# Altium footprint library LED.PcbLib: 36 footprints (part 1 of 3)
Each footprint in its own frame and in the unit in brackets; x right, y up, seen from the top. Pads: shape width x height; smd on the part's side, far side on the other; paste and mask are expansions set on the pad; w line width, h text height; cw(c..) or ccw(c..) is an arc to the next point about the centre after c.
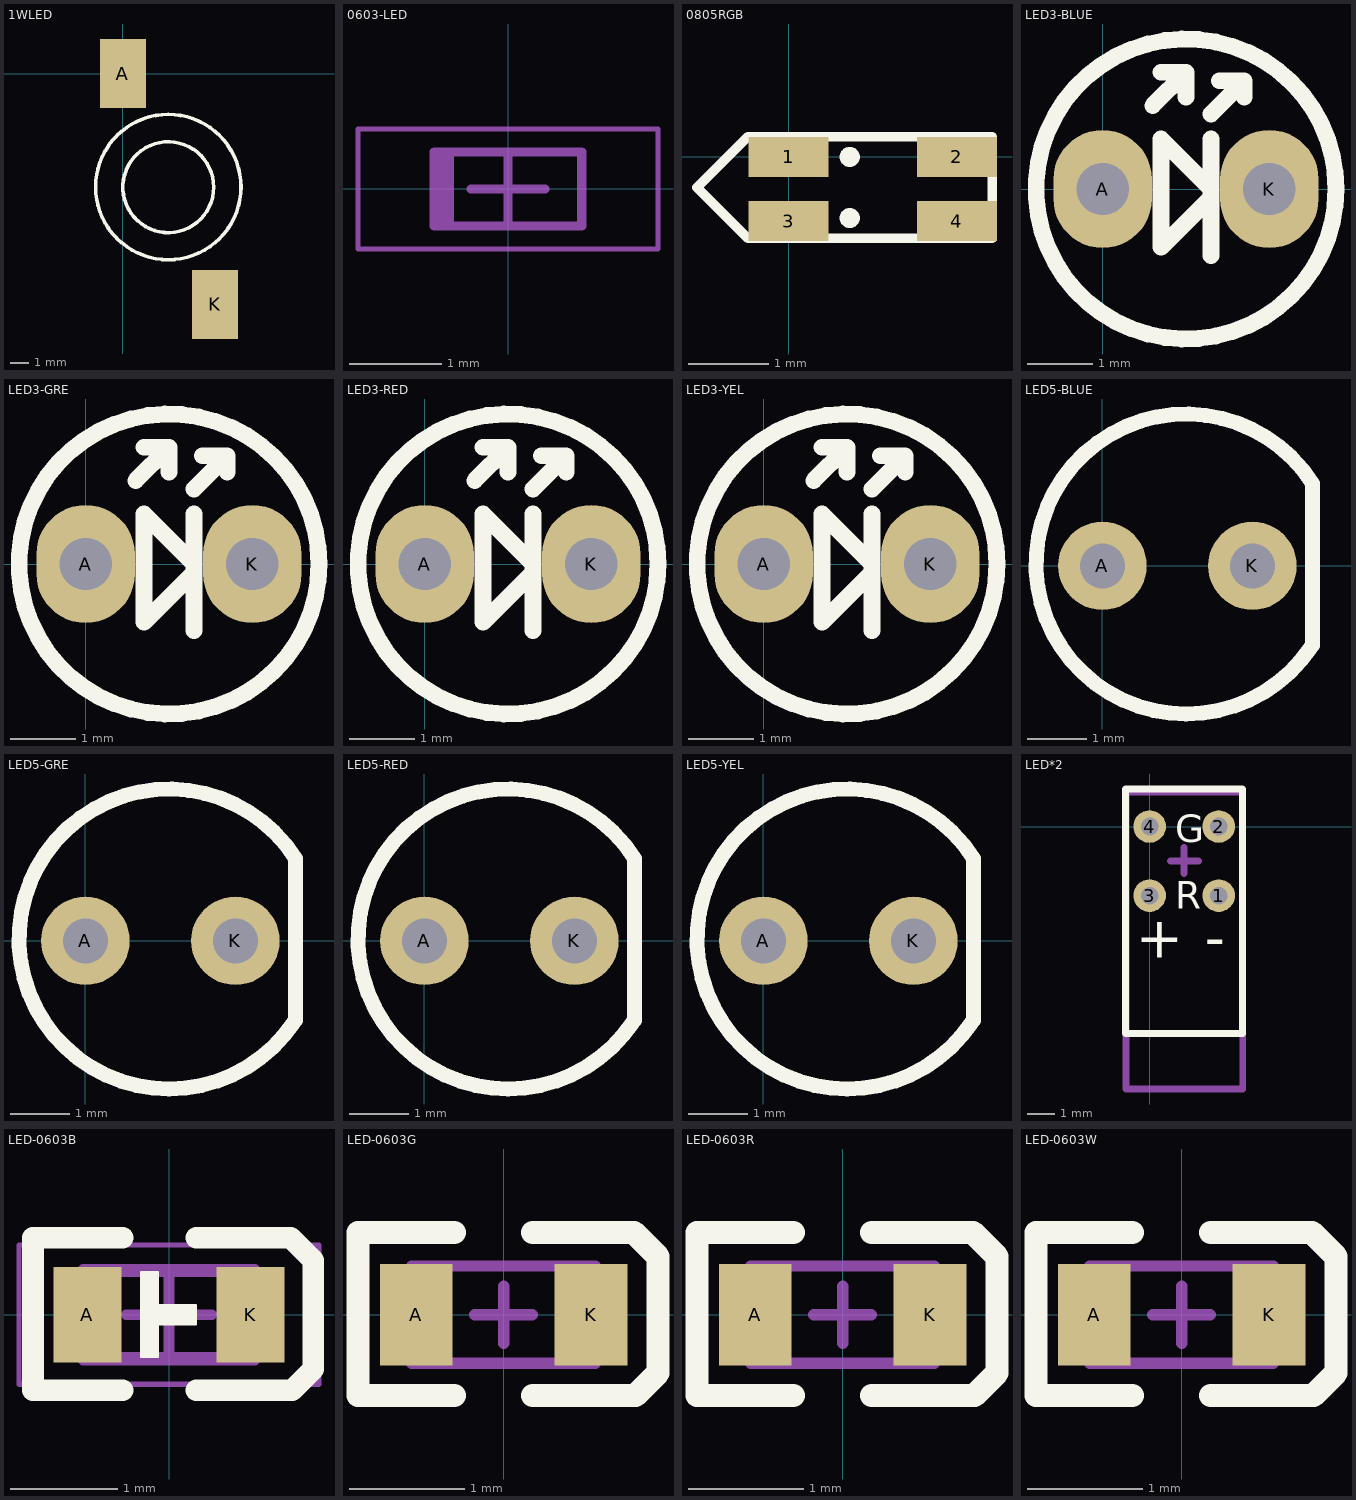
[diagram p0: the footprints below, top view; thin cyan lines are the x and y axes]

## 1WLED [mm]
pads (2):
  rect 2.54x3.81 smd: A(0,0) K(5.08,-12.7)
Top Overlay:
  circle w0.2: c2.5,-6.25 r2.5
  circle w0.2: c2.5,-6.242 r4
3D body: height 0.89, standoff 0.25, extent -1,-5.25 1,-1.5
3D body: height 0.89, standoff 0.25, extent 4,-11 6,-8
3D body: height 3.25, standoff 0.25, extent -1.468,-10.234 6.5,-2.25
3D body: height 5.55, standoff 0.55, extent 0.026,-8.729 5,-3.75
3D body: height 0.5, standoff 0.25, extent 4,-14.25 6,-11
3D body: height 0.5, standoff 0.25, extent -1,-1.5 1,1.5

## 0603-LED [mm] "Molded Diode, 2-Leads, Body 1.60x0.80mm, IPC Medium Density"
height 0.4
Top Courtyard:
  lines w0.05: -1.625,-0.65 -1.625,0.65 1.625,0.65 1.625,-0.65 -1.625,-0.65
  lines w0.1: -0.4,0 0.4,0 ; 0,-0.4 0,0.4
Top Assembly (Mech20):
  rectangle: -0.8,-0.4 -0.585,0.4
  lines w0.1: -0.8,-0.4 -0.8,0.4 0.8,0.4 0.8,-0.4 -0.8,-0.4

## 0805RGB [mm]
height 10
pads (4):
  rect 1x0.5 smd: 1(0,0) 2(2.1,0) 3(0,-0.8) 4(2.1,-0.8)
Top Overlay:
  circle w0.254: c0.762,0 r0
  circle w0.254: c0.762,-0.762 r0
  lines w0.12: -1.143,-0.381 -0.508,0.254 0,0.254 2.032,0.254 2.54,0.254 2.54,-1.016 2.032,-1.016 0,-1.016 -0.508,-1.016 -1.143,-0.381

## LED3-BLUE [mm]
pads (2):
  oval 1.5x1.8 hole 0.8: A(0,0) K(2.54,0)
Top Overlay:
  circle w0.254: c1.27,0 r2.286
  lines w0.254: 0.762,1.27 1.27,1.778 ; 0.889,1.778 1.27,1.778 ; 1.27,1.397 1.27,1.778 ; 1.651,-1.016 1.651,0.762 ; 1.651,1.143 2.159,1.651 ; 1.778,1.651 2.159,1.651 ; 2.159,1.397 2.159,1.651 ; 0.889,-0.889 1.651,-0.127 1.651,0 0.889,0.762 0.889,-0.889
3D body "LED3_BLUE.STEP": height 5.2, standoff -2, extent -0.73,-1.998 2.79,1.998

## LED3-GRE [mm]
pads (2):
  oval 1.5x1.8 hole 0.8: A(0,0) K(2.54,0)
Top Overlay:
  circle w0.254: c1.27,0 r2.286
  lines w0.254: 0.762,1.27 1.27,1.778 ; 0.889,1.778 1.27,1.778 ; 1.27,1.397 1.27,1.778 ; 1.651,-1.016 1.651,0.762 ; 1.651,1.143 2.159,1.651 ; 1.778,1.651 2.159,1.651 ; 2.159,1.397 2.159,1.651 ; 0.889,-0.889 1.651,-0.127 1.651,0 0.889,0.762 0.889,-0.889
3D body "LED3_GRE.STEP": height 5.2, standoff -2, extent -0.74,-2.003 2.78,1.993

## LED3-RED [mm]
pads (2):
  oval 1.5x1.8 hole 0.8: A(0,0) K(2.54,0)
Top Overlay:
  circle w0.254: c1.27,0 r2.286
  lines w0.254: 0.762,1.27 1.27,1.778 ; 0.889,1.778 1.27,1.778 ; 1.27,1.397 1.27,1.778 ; 1.651,-1.016 1.651,0.762 ; 1.651,1.143 2.159,1.651 ; 1.778,1.651 2.159,1.651 ; 2.159,1.397 2.159,1.651 ; 0.889,-0.889 0.889,0.762 1.651,0 1.651,-0.127 0.889,-0.889
3D body "LED3_RED.STEP": height 5.2, standoff -2, extent -0.74,-2.003 2.78,1.993

## LED3-YEL [mm]
pads (2):
  oval 1.5x1.8 hole 0.8: A(0,0) K(2.54,0)
Top Overlay:
  circle w0.254: c1.27,0 r2.286
  lines w0.254: 0.762,1.27 1.27,1.778 ; 0.889,1.778 1.27,1.778 ; 1.27,1.397 1.27,1.778 ; 1.651,-1.016 1.651,0.762 ; 1.651,1.143 2.159,1.651 ; 1.778,1.651 2.159,1.651 ; 2.159,1.397 2.159,1.651 ; 0.889,-0.889 1.651,-0.127 1.651,0 0.889,0.762 0.889,-0.889
3D body "LED3_YEL.STEP": height 5.2, standoff -2, extent -0.373,-1.91 3.147,2.086

## LED5-BLUE [mm]
pads (2):
  round 1.5 hole 0.762: A(0,0) K(2.54,0)
Top Overlay:
  lines w0.254: 3.528,-1.378 cw(c1.415,0.031) 3.556,1.397 3.556,-1.35
3D body "LED5_BLUE.STEP": height 8.6, standoff -2, extent -1.58,-2.85 3.77,2.85

## LED5-GRE [mm]
pads (2):
  round 1.5 hole 0.762: A(0,0) K(2.54,0)
Top Overlay:
  lines w0.254: 3.528,-1.378 cw(c1.415,0.031) 3.556,1.397 3.556,-1.35
3D body "LED5_GRE.STEP": height 8.6, standoff -2, extent -1.58,-2.85 3.77,2.85

## LED5-RED [mm]
pads (2):
  round 1.5 hole 0.762: A(0,0) K(2.54,0)
Top Overlay:
  lines w0.254: 3.528,-1.378 cw(c1.415,0.031) 3.556,1.397 3.556,-1.35
3D body "LED5_RED.STEP": height 8.6, standoff -2, extent -1.58,-2.85 3.77,2.85

## LED5-YEL [mm]
pads (2):
  round 1.5 hole 0.762: A(0,0) K(2.54,0)
Top Overlay:
  lines w0.254: 3.528,-1.378 cw(c1.415,0.031) 3.556,1.397 3.556,-1.35
3D body "LED5_YEL.STEP": height 8.6, standoff -2, extent -1.58,-2.85 3.77,2.85

## LED*2 [mm] "左正右负"
pads (4):
  round 1.2 hole 0.65: 1(2.54,-2.54) 2(2.54,0) 3(0,-2.54) 4(0,0)
Top Overlay:
  lines w0.254: 3.411,-7.611 -0.88,-7.611 -0.88,1.38 3.42,1.38 3.42,-7.62
  text "+" at -0.508,-4.826 h1.52
  text "-" at 2.032,-4.826 h1.52
  text "R" at 0.95,-3.025 h1
  text "G" at 0.95,-0.575 h1
Top Component Outline:
  lines w0.254: -0.875,-9.65 3.425,-9.65 3.425,1.25 3.4,1.275 -0.875,1.275 -0.875,-9.65
Top Component Center:
  lines w0.254: 0.77,-1.27 1.795,-1.27 ; 1.27,-1.72 1.27,-0.77
Top Value:
  text "'.Comment'" at -2.058,-1.992 h1.52
Top Designator:
  text "'.Designator'" at -2.928,-1.868 h1.52
3D body "红绿双色LED.step": height 9.65, standoff -3.68, extent -0.871,-9.66 3.429,1.27

## LED-0603B [mil]
pads (2):
  rect 25x35 smd: A(-30,0) K(30,0)
Top Overlay:
  region: -10.16,15.5 -4.16,15.5 -4.16,3.5 9.84,3.5 9.84,-3.5 -4.16,-3.5 -4.16,-15.5 -10.16,-15.5
  lines w1: -10.16,-15.5 -10.16,15.5 -4.16,15.5 -4.16,3.5 9.84,3.5 9.84,-3.5 -4.16,-3.5 -4.16,-15.5 -10.16,-15.5
  lines w8: -17,-27.74 -50,-27.74 -50,28.26 -17,28.26 ; 10,-27.74 45.25,-27.74 53,-20 53,20 44.74,28.26 ; 10,28.26 44,28.26
Top Component Outline:
  lines w3.94: -31.5,-16.73 31.5,-16.73 31.5,16.73 -31.5,16.73 -31.5,-16.73
Top Component Center:
  lines w3.94: -9.84,0 9.84,0 ; 0,-9.84 0,9.84
Top Value:
  text "'.Comment'" at -53.89,-7.44 h25
Top Designator:
  text "'.Designator'" at -85.66,-11.64 h30
Top Courtyard:
  lines w1.97: -55.12,-25.59 -55.12,25.59 55.12,25.59 55.12,-25.59 -55.12,-25.59
  lines w3.94: -15.75,0 15.75,0 ; 0,-15.75 0,15.75
Top Assembly (Mech20):
  region: 31.5,15.75 23.02,15.75 23.02,-15.75 31.5,-15.75
  lines w3.94: -31.5,-15.75 -31.5,15.75 31.5,15.75 31.5,-15.75 -31.5,-15.75
3D body "18.STEP": height 23.82, standoff -0.04, extent -31.5,-15.75 31.5,15.83

## LED-0603G [mil]
pads (2):
  rect 25x35 smd: A(-30,0) K(30,0)
Top Overlay:
  lines w8: -17,-27.74 -50,-27.74 -50,28.26 -17,28.26 ; 10,-27.74 45.25,-27.74 53,-20 53,20 44.74,28.26 ; 10,28.26 44,28.26
Top Component Outline:
  lines w3.94: -31.5,-16.73 -31.5,16.73 31.5,16.73 31.5,-16.73 -31.5,-16.73
Top Component Center:
  lines w3.94: -9.84,0 9.84,0 ; 0,-9.84 0,9.84
Top Value:
  text "'.Comment'" at -53.89,-7.44 h25
Top Designator:
  text "'.Designator'" at -85.66,-11.64 h30
3D body "17.STEP": height 23.82, standoff -0.04, extent -31.5,-15.75 31.5,15.83

## LED-0603R [mil]
pads (2):
  rect 25x35 smd: A(-30,0) K(30,0)
Top Overlay:
  lines w8: -17,-27.74 -50,-27.74 -50,28.26 -17,28.26 ; 10,-27.74 45.25,-27.74 53,-20 53,20 44.74,28.26 ; 10,28.26 44,28.26
Top Component Outline:
  lines w3.94: -31.5,-16.73 31.5,-16.73 31.5,16.73 -31.5,16.73 -31.5,-16.73
Top Component Center:
  lines w3.94: -9.84,0 9.84,0 ; 0,-9.84 0,9.84
Top Value:
  text "'.Comment'" at -53.89,-7.44 h25
Top Designator:
  text "'.Designator'" at -85.66,-11.64 h30
3D body "16.STEP": height 23.82, standoff -0.04, extent -30,-15.79 32.99,15.79

## LED-0603W [mil]
pads (2):
  rect 25x35 smd: A(-30,0) K(30,0)
Top Overlay:
  lines w8: -17,-27.74 -50,-27.74 -50,28.26 -17,28.26 ; 10,-27.74 45.25,-27.74 53,-20 53,20 44.74,28.26 ; 10,28.26 44,28.26
Top Component Outline:
  lines w3.94: -31.5,-16.73 -31.5,16.73 31.5,16.73 31.5,-16.73 -31.5,-16.73
Top Component Center:
  lines w3.94: -9.84,0 9.84,0 ; 0,-9.84 0,9.84
Top Value:
  text "'.Comment'" at -53.89,-7.44 h25
Top Designator:
  text "'.Designator'" at -85.66,-11.64 h30
3D body "15.STEP": height 23.82, standoff -0.04, extent -31.5,-15.75 31.5,15.83